# EAGLE library part MA07-1 (library dec-con)
Pin Header (.125" spacing)
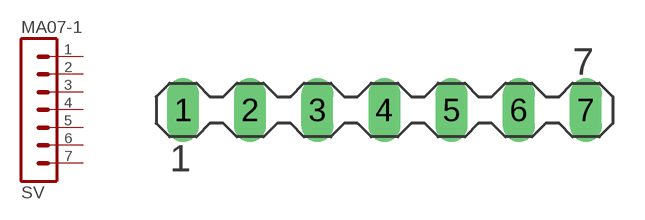
[diagram p18: symbol with the pads of MA07-1; footprint MA07-1]

Designator prefix SV

## MA07-1  [MA07-1]
1  1  pas
2  2  pas
3  3  pas
4  4  pas
5  5  pas
6  6  pas
7  7  pas

## Footprint MA07-1 (pad centres in mm)
PIN HEADER
drill 1.016 long: 1 -9.525,0; 2 -6.35,0; 3 -3.175,0; 4 0,0; 5 3.175,0; 6 6.35,0; 7 9.525,0